# Altium schematic symbol library MicroFit-components.SchLib: 7 symbols
Pins are listed as number, name and electrical type; pins without a type are passive.

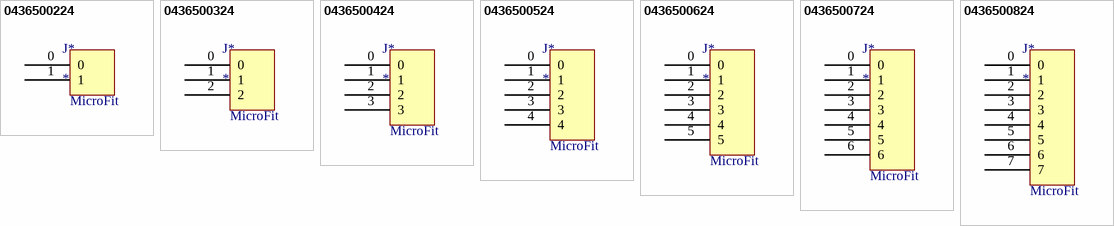
[diagram p0: symbols 0436500224 to 0436500824]

## 0436500224
designator J*
MicroFit 2 POS SMD VERTICAL SINGLE ROW
footprint 0436500224 (MicroFit 2 POS SMD VERTICAL SINGLE ROW)
pins: 0, 1
text: MicroFit

## 0436500324
designator J*
MicroFit 3 POS SMD VERTICAL SINGLE ROW
footprint 0436500324 (MicroFit 3 POS SMD VERTICAL SINGLE ROW)
pins: 0, 1, 2
text: MicroFit

## 0436500424
designator J*
MicroFit 4 POS SMD VERTICAL SINGLE ROW
footprint 0436500424 (MicroFit 4 POS SMD VERTICAL SINGLE ROW)
pins: 0, 1, 2, 3
text: MicroFit

## 0436500524
designator J*
MicroFit 5 POS SMD VERTICAL SINGLE ROW
footprint 0436500524 (MicroFit 5 POS SMD VERTICAL SINGLE ROW)
pins: 0, 1, 2, 3, 4
text: MicroFit

## 0436500624
designator J*
MicroFit 6 POS SMD VERTICAL SINGLE ROW
footprint 0436500624 (MicroFit 6 POS SMD VERTICAL SINGLE ROW)
pins: 0, 1, 2, 3, 4, 5
text: MicroFit

## 0436500724
designator J*
MicroFit 7 POS SMD VERTICAL SINGLE ROW
footprint 0436500724 (MicroFit 7 POS SMD VERTICAL SINGLE ROW)
pins: 0, 1, 2, 3, 4, 5, 6
text: MicroFit

## 0436500824
designator J*
MicroFit 8 POS SMD VERTICAL SINGLE ROW
footprint 0436500824 (MicroFit 8 POS SMD VERTICAL SINGLE ROW)
pins: 0, 1, 2, 3, 4, 5, 6, 7
text: MicroFit